# Altium schematic symbol library Thruster Shield Part Library.SchLib: 8 symbols
Pins are listed as number, name and electrical type; pins without a type are passive.

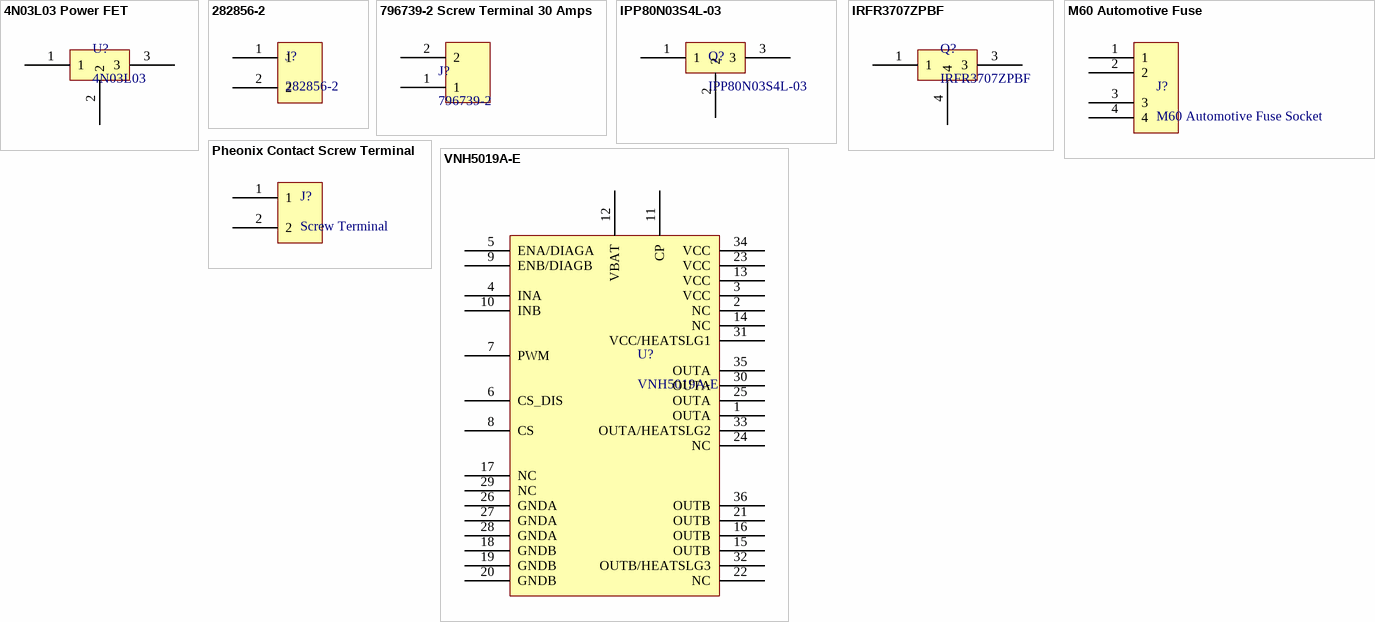
[diagram p0: symbols 4N03L03 Power FET to VNH5019A-E]

## 4N03L03 Power FET
designator U?, comment 4N03L03
Power FET
footprint IPB04N03LA (Power-Transistor)
pins: 1, 2, 3

## 282856-2
designator J?
Two pole screw terminal
footprint 282856-2 (Screw Terminal  two pole)
pins: 1, 2

## 796739-2 Screw Terminal 30 Amps
designator J?, comment 796739-2
footprint 796739-2 (796739-2 30Amp Screw Terminal block)
pins: 1, 2

## IPP80N03S4L-03
designator Q?
Power FET TO220 Package
footprint TO-220 (TO, Thru-Hole, Vertical, Heatsink Mounted; 3 In-Line Leads; Pitch 2.54 mm)
pins: 1 "Gate", 2 "Drain", 3 "Source"

## IRFR3707ZPBF
designator Q?
Power FET
footprint IRFR3707ZPBF (Power FET)
pins: 1, 3, 4

## M60 Automotive Fuse
designator J?, comment M60 Automotive Fuse Socket
Automotive Fuse Socket
footprint M60 (Automotive Fuse Socket)
pins: 1, 2, 3, 4

## Pheonix Contact Screw Terminal
designator J?, comment Screw Terminal
Pheonix Contact Screw Terminal
footprint Pheonix Contact Screw Terminal
pins: 1, 2

## VNH5019A-E
designator U?
VNH5019A-E H-Bridge
footprint VNH5019A-E (STMicroelectronics VNH5019A-E H-Bridge)
pins: 1 OUTA, 2 NC, 3 VCC, 4 INA, 5 ENA/DIAGA, 6 CS_DIS, 7 PWM, 8 CS, 9 ENB/DIAGB, 10 INB, 11 CP, 12 VBAT, 13 VCC, 14 NC, 15 OUTB, 16 OUTB, 17 NC, 18 GNDB, 19 GNDB, 20 GNDB, 21 OUTB, 22 NC, 23 VCC, 24 NC, 25 OUTA, 26 GNDA, 27 GNDA, 28 GNDA, 29 NC, 30 OUTA, 31 VCC/HEATSLG1, 32 OUTB/HEATSLG3, 33 OUTA/HEATSLG2, 34 VCC, 35 OUTA, 36 OUTB